# EAGLE library part OP-AMP-2 (library Namenlos)
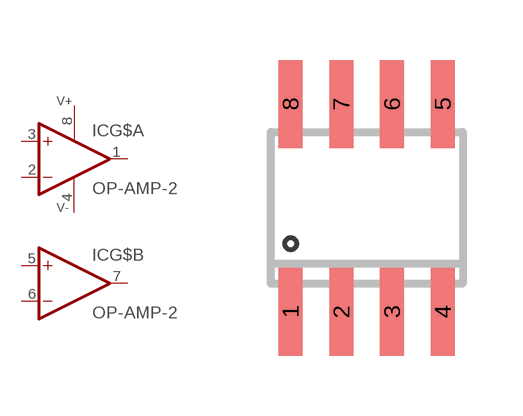
[diagram p22: symbol with the pads of SO8; footprint SO8]

Designator prefix IC; gates G$A=OPAMP G$B=OPAMP G$PWR=PWR+-

## OP-AMP-2LM358D  [SO8]
1  G$A:OUT  out
2  G$A:-IN  in
3  G$A:+IN  in
4  G$PWR:V-  pwr
5  G$B:+IN  in
6  G$B:-IN  in
7  G$B:OUT  out
8  G$PWR:V+  pwr

## Footprint SO8 (pad centres in mm)
smd 0.6 x 2.2: 1 -1.905,-2.6; 2 -0.635,-2.6; 3 0.635,-2.6; 4 1.905,-2.6; 5 1.905,2.6; 6 0.635,2.6; 7 -0.635,2.6; 8 -1.905,2.6